# Altium footprint library ANT.PcbLib: 3 footprints
Each footprint in its own frame and in the unit in brackets; x right, y up, seen from the top. Pads: shape width x height; smd on the part's side, far side on the other; paste and mask are expansions set on the pad; w line width, h text height; cw(c..) or ccw(c..) is an arc to the next point about the centre after c.
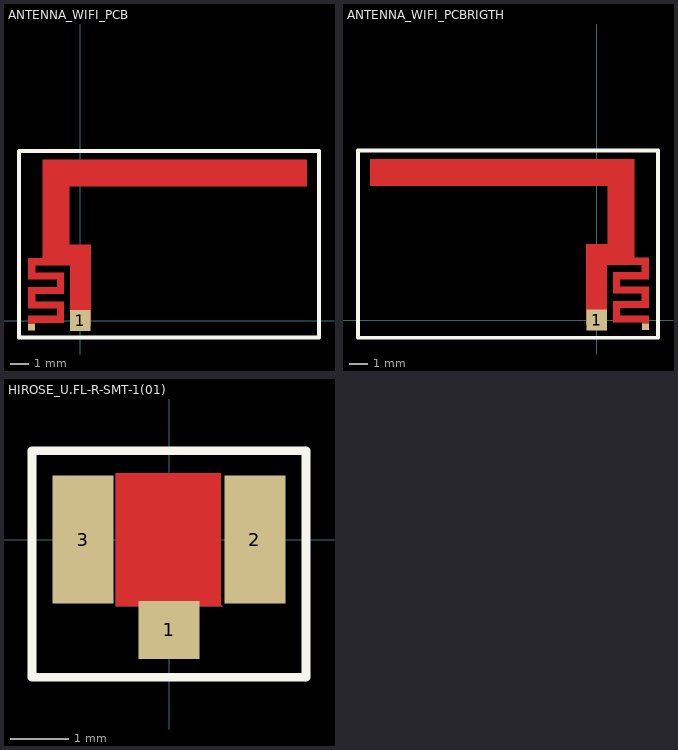
[diagram p0: the footprints below, top view; thin cyan lines are the x and y axes]

## ANTENNA_WIFI_PCB [mil]
pads (2):
  rect 43x43 smd mask+2: 1(0,0)
  rect 14x14 smd mask+2: 2(-102,-14)
Top Layer:
  rectangle: -21.65,-10 21.65,158
  region: 21.65,115.09 21.65,158.4 -78.74,158.4 -78.74,115.09
  region: -22.64,335.57 -78.74,335.57 -78.74,115.09 -22.64,115.09
  region: -78.74,335.57 -78.74,279.46 472.44,279.46 472.44,335.57
  region: -94,70 -109,70 -109,25 -94,25
  region: -109,40 -109,25 -34,25 -34,40
  region: -109,70 -109,55 -34,55 -34,70
  rectangle: -49,55 -34,100
  region: -109,100 -109,85 -34,85 -34,100
  region: -94,130 -109,130 -109,85 -94,85
  region: -109,10 -109,-5 -34,-5 -34,10
  rectangle: -49,-5 -34,40
  region: -109,130 -109,115 -34,115 -34,130
  rectangle: -109,-7 -95,10
Top Overlay:
  lines w8: -127.95,-35 497.05,-35 497.05,353.35 -127.95,353.35 -127.95,-35
Top Solder:
  rectangle: -111,-23 -93,11
  rectangle: -111,-6 -33,11
  rectangle: -50,-6 -33,41
  rectangle: -110,24 -33,41
  rectangle: -110,24 -93,71
  rectangle: -110,54 -33,71
  rectangle: -50,54 -33,101
  rectangle: -110,84 -33,101
  rectangle: -110,84 -93,131
  rectangle: -110,114 -72,131
  rectangle: -24,-24 23,160
  rectangle: -80,114 23,160
  rectangle: -80,114 -22,336
  rectangle: -80,278 474,337

## ANTENNA_WIFI_PCBRIGTH [mil]
pads (2):
  rect 43x43 smd mask+2: 1(0,0)
  rect 14x14 smd mask+2: 2(102,-14)
Top Layer:
  region: 21.65,158 -21.65,158 -21.65,-10 21.65,-10
  region: 78.74,115.09 78.74,158.4 -21.65,158.4 -21.65,115.09
  rectangle: 22.64,115.09 78.74,335.57
  region: -472.44,335.57 -472.44,279.46 78.74,279.46 78.74,335.57
  rectangle: 93.99,25 108.99,70
  region: 33.99,40 33.99,25 108.99,25 108.99,40
  region: 33.99,70 33.99,55 108.99,55 108.99,70
  region: 48.99,100 33.99,100 33.99,55 48.99,55
  region: 33.99,100 33.99,85 108.99,85 108.99,100
  rectangle: 93.99,85 108.99,130
  region: 33.99,10 33.99,-5 108.99,-5 108.99,10
  region: 48.99,40 33.99,40 33.99,-5 48.99,-5
  region: 33.99,130 33.99,115 108.99,115 108.99,130
  region: 108.99,10 94.99,10 94.99,-7 108.99,-7
Top Overlay:
  lines w8: -497.05,-37 127.95,-37 127.95,353.35 -497.05,353.35 -497.05,-37
Top Solder:
  region: 110.99,11 92.99,11 92.99,-23 110.99,-23
  region: 110.99,11 32.99,11 32.99,-6 110.99,-6
  region: 49.99,41 32.99,41 32.99,-6 49.99,-6
  region: 109.99,41 32.99,41 32.99,24 109.99,24
  region: 109.99,71 92.99,71 92.99,24 109.99,24
  region: 109.99,71 32.99,71 32.99,54 109.99,54
  region: 49.99,101 32.99,101 32.99,54 49.99,54
  region: 109.99,101 32.99,101 32.99,84 109.99,84
  region: 109.99,131 92.99,131 92.99,84 109.99,84
  region: 109.99,131 71.99,131 71.99,114 109.99,114
  region: 23.99,160 -23.01,160 -23.01,-24 23.99,-24
  region: 79.99,160 -23.01,160 -23.01,114 79.99,114
  region: 79.99,336 21.99,336 21.99,114 79.99,114
  region: 79.99,337 -474.01,337 -474.01,278 79.99,278

## HIROSE_U.FL-R-SMT-1(01) [mm] "CONN U.FL RCPT STR 50 OHM SMD"
height 2.5
pads (3):
  rect 1.05x1 smd mask+0.051: 1(0,-1.55)
  rect 1.05x2.2 smd mask+0.051: 2(1.475,0) 3(-1.475,0)
Top Layer:
  pour cut-out: -0.914,1.143 0.889,1.143 0.889,-1.118 0.914,-1.143 -0.914,-1.143
Bottom Layer:
  pour cut-out: -0.914,1.143 0.889,1.143 0.889,-1.118 0.914,-1.143 -0.914,-1.143
Top Overlay:
  lines w0.15: -2.35,-2.362 2.35,-2.362 2.35,1.526 -2.35,1.526 -2.35,-2.362
3D body "User Library-20279-001.STEP": height 1.25, standoff -0.01, extent -1.5,-1.576 1.5,1.524